# EAGLE library part 74HC4040 (library 74HC4040)
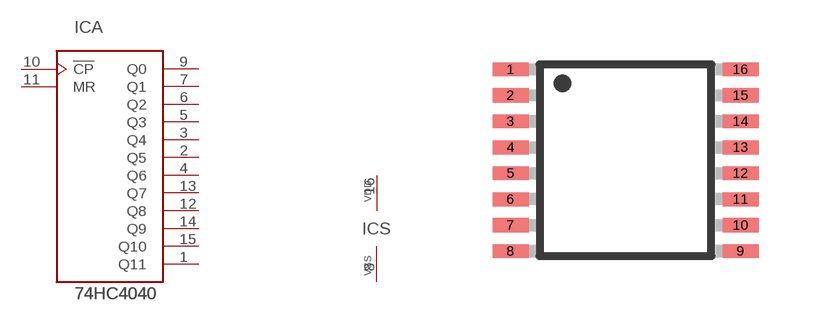
[diagram p0: symbol with the pads of TSSOP16; footprint TSSOP16]

Designator prefix IC; gates S=SPOWER A=COUNTER12

## 74HC4040DB (MFG: Nexperia; MPN: 74HC4040PW,118)  [TSSOP16]
1  A:Q11  out
2  A:Q5  out
3  A:Q4  out
4  A:Q6  out
5  A:Q3  out
6  A:Q2  out
7  A:Q1  out
8  S:VSS  pwr
9  A:Q0  out
10  A:!CP  in
11  A:MR  in
12  A:Q8  out
13  A:Q7  out
14  A:Q9  out
15  A:Q10  out
16  S:VDD  pwr

## Footprint TSSOP16 (pad centres in mm)
16-Lead Thin Shrink Small Outline Package [TSSOP] (RU-16) Source: 8x ADG1408_1409.pdf
smd 0.9 x 0.35: 1 -2.875,2.275; 2 -2.875,1.625; 3 -2.875,0.975; 4 -2.875,0.325; 5 -2.875,-0.325; 6 -2.875,-0.975; 7 -2.875,-1.625; 8 -2.875,-2.275; 9 2.875,-2.275; 10 2.875,-1.625; 11 2.875,-0.975; 12 2.875,-0.325; 13 2.875,0.325; 14 2.875,0.975; 15 2.875,1.625; 16 2.875,2.275